# Altium schematic symbol library Library_KEI_Ruzicka.SchLib: 118 symbols (part 2 of 2)
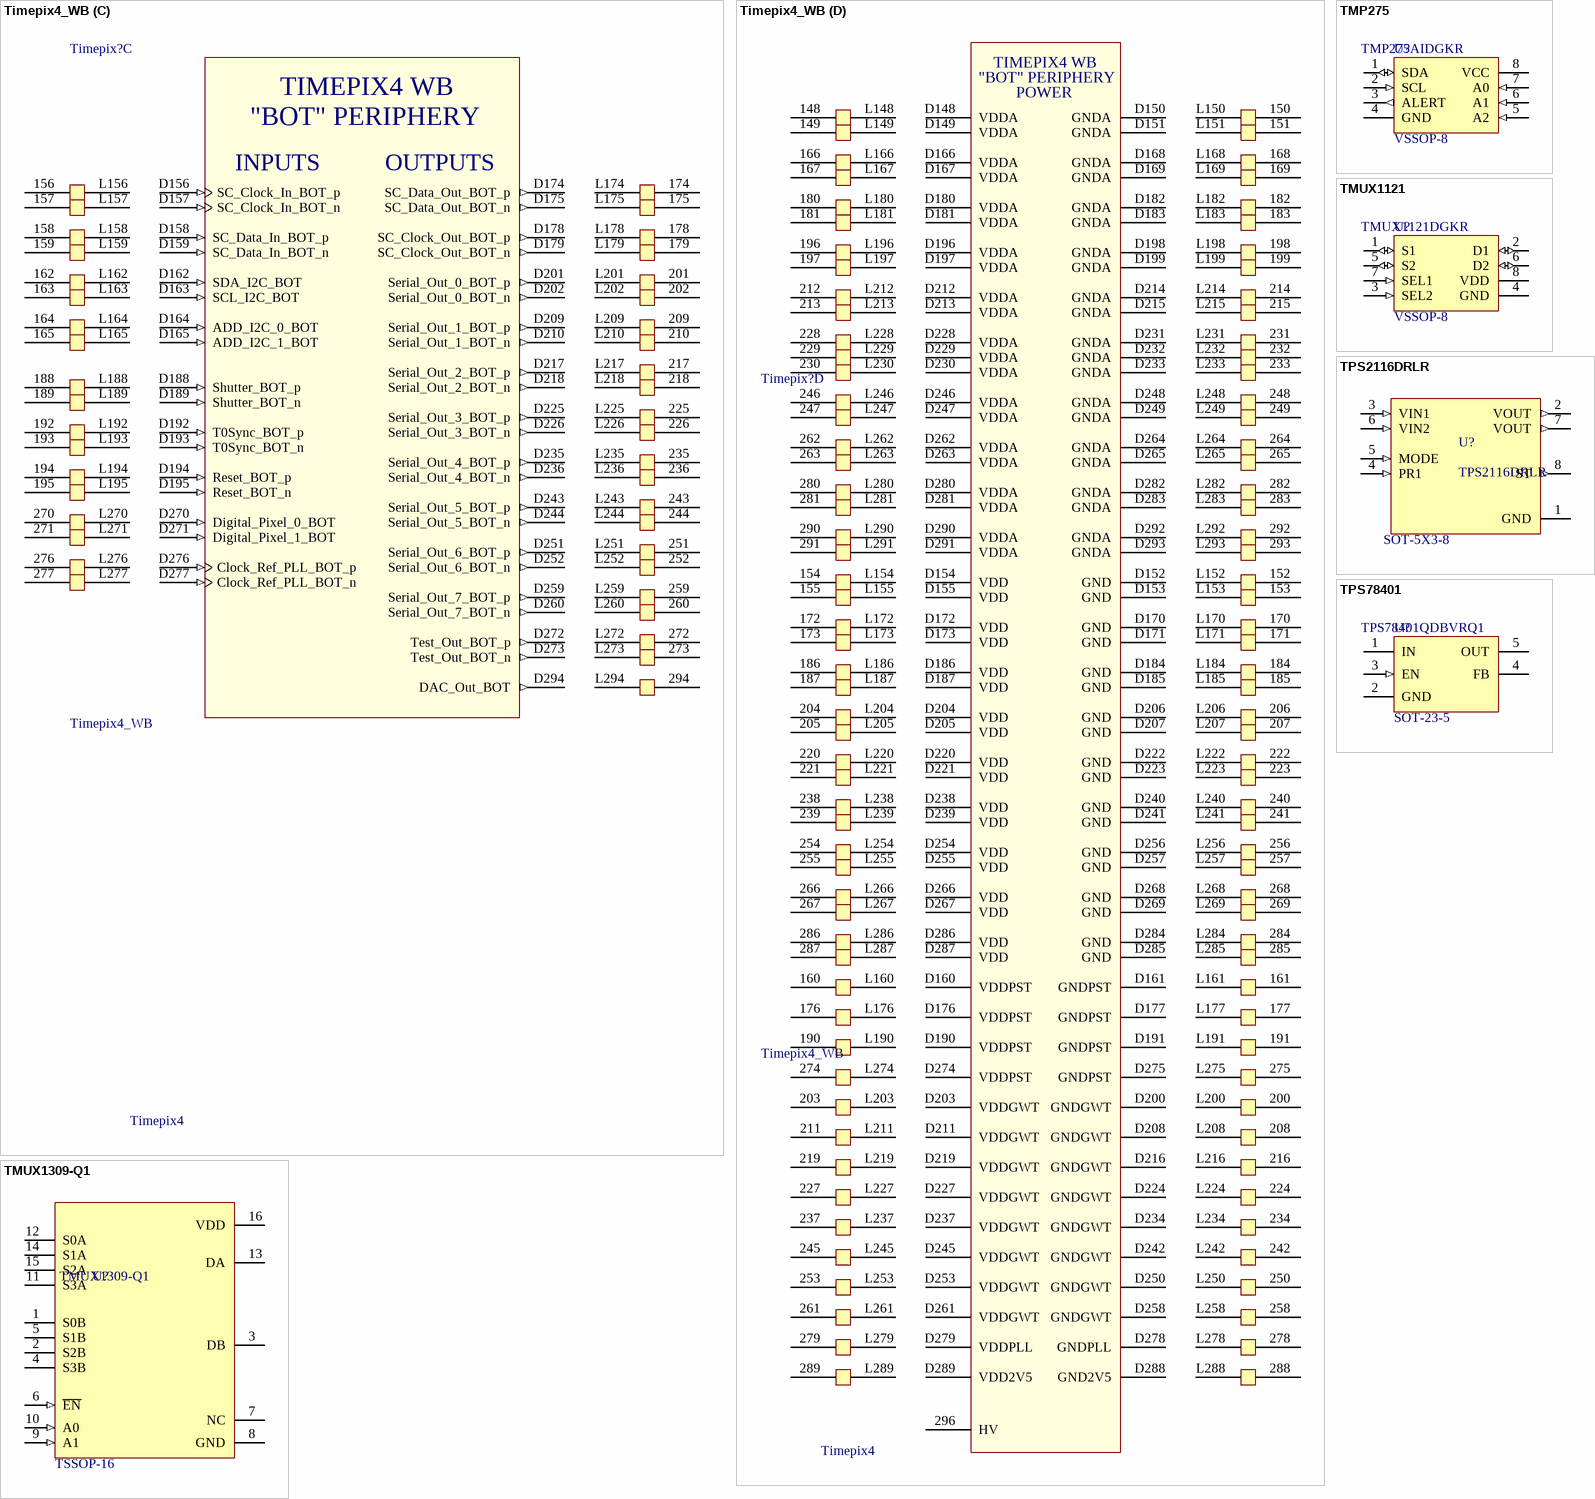
[diagram p7: symbols Timepix4_WB to TPS78401]

## Timepix4_WB
designator Timepix?  value Timepix4
Timepix4 sensor, wirebond; Part Number: 41; Manufacturer: CERN; Pins: 884; Supplier: CERN; Supplier_number: Timepix4
footprint Timepix4_WB (Pixelated chip)
footprint MOD_Timepix4_Wirebond_W1180_L980
footprint MOD_Timepix4_Wirebond_W1180_L980_cascadeBond
footprint MOD_Timepix4_Wirebond_W1180_L980_cascadeBond_sideHV
part A pins: 9, 10, 11, 12, 15, 16, 17, 18, 27, 28, 31, 32, 41, 42, 45, 46, 47, 48, 54, 55, 62, 63, 70, 71, 78, 79, 88, 89, 96, 97, 104, 105, 112, 113, 123, 124, 125, 126, 129, 130, 147, D9 SC_Clock_In_TOP_p (in), D10 SC_Clock_In_TOP_n (in), D11 SC_Data_In_TOP_p (in), D12 SC_Data_In_TOP_n (in), D15 SDA_I2C_TOP (in), D16 SCL_I2C_TOP (in), D17 ADD_I2C_0_TOP (in), D18 ADD_I2C_1_TOP (in), D27 SC_Data_Out_TOP_p (out), D28 SC_Data_Out_TOP_n (out), D31 SC_Clock_Out_TOP_p (out), D32 SC_Clock_Out_TOP_n (out), D41 Shutter_TOP_p (in), D42 Shutter_TOP_n (in), D45 T0Sync_TOP_p (in), D46 T0Sync_TOP_n (in), D47 Reset_TOP_p (in), D48 Reset_TOP_n (in), D54 Serial_Out_0_TOP_p (out), D55 Serial_Out_0_TOP_n (out), D62 Serial_Out_1_TOP_p (out), D63 Serial_Out_1_TOP_n (out), D70 Serial_Out_2_TOP_p (out), D71 Serial_Out_2_TOP_n (out), D78 Serial_Out_3_TOP_p (out), D79 Serial_Out_3_TOP_n (out), D88 Serial_Out_4_TOP_p (out), D89 Serial_Out_4_TOP_n (out), D96 Serial_Out_5_TOP_p (out), D97 Serial_Out_5_TOP_n (out), D104 Serial_Out_6_TOP_p (out), D105 Serial_Out_0_TOP_n (out), D112 Serial_Out_7_TOP_p (out), D113 Serial_Out_7_TOP_n (out), D123 Digital_Pixel_0_TOP (in), D124 Digital_Pixel_1_TOP (in), D125 Test_Out_TOP_p (out), D126 Test_Out_TOP_n (out), D129 Clock_Ref_PLL_TOP_p (in), D130 Clock_Ref_PLL_TOP_n (in), D147 DAC_Out_TOP (out), L9, L10, L11, L12, L15, L16, L17, L18, L27, L28, L31, L32, L41, L42, L45, L46, L47, L48, L54, L55, L62, L63, L70, L71, L78, L79, L88, L89, L96, L97, L104, L105, L112, L113, L123, L124, L125, L126, L129, L130, L147
part B pins: 1, 2, 3, 4, 5, 6, 7, 8, 13, 14, 19 2, 20 3, 21, 22, 23, 24, 25, 26, 29 14, 30, 33 3, 34 4, 35, 36, 37, 38, 39, 40, 43 15, 44, 49 4, 50 5, 51, 52, 53, 56, 57, 58, 59, 60, 61, 64 57, 65 5, 66 6, 67, 68, 69, 72 58, 73, 74, 75, 76, 77, 80 59, 81 6, 82 7, 83 8, 84, 85, 86, 87, 90, 91, 92, 93, 94, 95, 98, 99 6, 100 7, 101, 102, 103, 106, 107, 108, 109, 110, 111, 114, 115 7, 116 8, 117, 118, 119, 120, 121, 122, 127 16, 128, 131, 132 17, 133 8, 134 9, 135, 136, 137, 138, 139, 140, 141, 142, 143 9, 144 10, 145, 146, 295 HV, D1 VDDA (power), D2 VDDA (power), D3 GNDA (power), D4 GNDA (power), D5 GND (power), D6 GND (power), D7 VDD (power), D8 VDD (power), D13 VDDPST (power), D14 GNDPST (power), D19 VDDA (power), D20 VDDA (power), D21 GNDA (power), D22 GNDA (power), D23 GND (power), D24 GND (power), D25 VDD (power), D26 VDD (power), D29 VDDPST (power), D30 GNDPST (power), D33 VDDA (power), D34 VDDA (power), D35 GNDA (power), D36 GNDA (power), D37 GND (power), D38 GND (power), D39 VDD (power), D40 VDD (power), D43 VDDPST (power), D44 GNDPST (power), D49 VDDA (power), D50 VDDA (power), D51 GNDA (power), D52 GNDA (power), D53 GNDGWT (power), D56 VDDGWT (power), D57 VDD (power), D58 VDD (power), D59 GND (power), D60 GND (power), D61 GNDGWT (power), D64 VDDGWT (power), D65 VDDA (power), D66 VDDA (power), D67 GNDA (power), D68 GNDA (power), D69 GNDGWT (power), D72 VDDGWT (power), D73 VDD (power), D74 VDD (power), D75 GND (power), D76 GND (power), D77 GNDGWT (power), D80 VDDGWT (power), D81 VDDA (power), D82 VDDA (power), D83 VDDA (power), D84 GNDA (power), D85 GNDA (power), D86 GNDA (power), D87 GNDGWT (power), D90 VDDGWT (power), D91 VDD (power), D92 VDD (power), D93 GND (power), D94 GND (power), D95 GNDGWT (power), D98 VDDGWT (power), D99 VDDA (power), D100 VDDA (power), D101 GNDA (power), D102 GNDA (power), D103 GNDGWT (power), D106 VDDGWT (power), D107 VDD (power), D108 VDD (power), D109 GND (power), D110 GND (power), D111 GNDGWT (power), D114 VDDGWT (power), D115 VDDA (power), D116 VDDA (power), D117 GNDA (power), D118 GNDA (power), D119 VDD (power), D120 VDD (power), D121 GND (power), D122 GND (power), D127 VDDPST (power), D128 GNDPST (power), D131 GNDPLL (power), D132 VDDPLL (power), D133 VDDA (power), D134 VDDA (power), D135 GNDA (power), D136 GNDA (power), D137 GND (power), D138 GND (power), D139 VDD (power), D140 VDD (power), D141 GND2V5 (power), D142 VDD2V5 (power), D143 VDDA (power), D144 VDDA (power), D145 GNDA (power), D146 GNDA (power), L1, L2, L3, L4, L5, L6, L7, L8, L13, L14, L19, L20, L21, L22, L23, L24, L25, L26, L29, L30, L33, L34, L35, L36, L37, L38, L39, L40, L43, L44, L49, L50, L51, L52, L53, L56, L57, L58, L59, L60, L61, L64, L65, L66, L67, L68, L69, L72, L73, L74, L75, L76, L77, L80, L81, L82, L83, L84, L85, L86, L87, L90, L91, L92, L93, L94, L95, L98, L99, L100, L101, L102, L103, L106, L107, L108, L109, L110, L111, L114, L115, L116 L8, L117, L118, L119, L120, L121, L122, L127, L128, L131, L132, L133, L134, L135, L136, L137, L138, L139, L140, L141, L142, L143, L144, L145, L146
part C pins: 156, 157, 158, 159, 162, 163, 164, 165, 174, 175, 178, 179, 188, 189, 192, 193, 194, 195, 201, 202, 209, 210, 217, 218, 225, 226, 235, 236, 243, 244, 251, 252, 259, 260, 270, 271, 272, 273, 276, 277, 294, D156 SC_Clock_In_BOT_p (in), D157 SC_Clock_In_BOT_n (in), D158 SC_Data_In_BOT_p (in), D159 SC_Data_In_BOT_n (in), D162 SDA_I2C_BOT (in), D163 SCL_I2C_BOT (in), D164 ADD_I2C_0_BOT (in), D165 ADD_I2C_1_BOT (in), D174 SC_Data_Out_BOT_p (out), D175 SC_Data_Out_BOT_n (out), D178 SC_Clock_Out_BOT_p (out), D179 SC_Clock_Out_BOT_n (out), D188 Shutter_BOT_p (in), D189 Shutter_BOT_n (in), D192 T0Sync_BOT_p (in), D193 T0Sync_BOT_n (in), D194 Reset_BOT_p (in), D195 Reset_BOT_n (in), D201 Serial_Out_0_BOT_p (out), D202 Serial_Out_0_BOT_n (out), D209 Serial_Out_1_BOT_p (out), D210 Serial_Out_1_BOT_n (out), D217 Serial_Out_2_BOT_p (out), D218 Serial_Out_2_BOT_n (out), D225 Serial_Out_3_BOT_p (out), D226 Serial_Out_3_BOT_n (out), D235 Serial_Out_4_BOT_p (out), D236 Serial_Out_4_BOT_n (out), D243 Serial_Out_5_BOT_p (out), D244 Serial_Out_5_BOT_n (out), D251 Serial_Out_6_BOT_p (out), D252 Serial_Out_6_BOT_n (out), D259 Serial_Out_7_BOT_p (out), D260 Serial_Out_7_BOT_n (out), D270 Digital_Pixel_0_BOT (in), D271 Digital_Pixel_1_BOT (in), D272 Test_Out_BOT_p (out), D273 Test_Out_BOT_n (out), D276 Clock_Ref_PLL_BOT_p (in), D277 Clock_Ref_PLL_BOT_n (in), D294 DAC_Out_BOT (out), L156, L157, L158, L159, L162, L163, L164, L165, L174, L175, L178, L179, L188, L189, L192, L193, L194, L195, L201, L202, L209, L210, L217, L218, L225, L226, L235, L236, L243, L244, L251, L252, L259, L260, L270, L271, L272, L273, L276, L277, L294
part D pins: 148, 149, 150, 151, 152, 153, 154, 155, 160, 161, 166 149, 167 150, 168, 169, 170, 171, 172, 173, 176 161, 177, 180 150, 181 151, 182, 183, 184, 185, 186, 187, 190 162, 191, 196 151, 197 152, 198, 199, 200, 203, 204, 205, 206, 207, 208, 211 204, 212 152, 213 153, 214, 215, 216, 219 205, 220, 221, 222, 223, 224, 227 206, 228 153, 229 154, 230 155, 231, 232, 233, 234, 237, 238, 239, 240, 241, 242, 245, 246 153, 247 154, 248, 249, 250, 253, 254, 255, 256, 257, 258, 261, 262 154, 263 155, 264, 265, 266, 267, 268, 269, 274 163, 275, 278, 279 164, 280 155, 281 156, 282, 283, 284, 285, 286, 287, 288, 289, 290 156, 291 157, 292, 293, 296 HV, D148 VDDA (power), D149 VDDA (power), D150 GNDA (power), D151 GNDA (power), D152 GND (power), D153 GND (power), D154 VDD (power), D155 VDD (power), D160 VDDPST (power), D161 GNDPST (power), D166 VDDA (power), D167 VDDA (power), D168 GNDA (power), D169 GNDA (power), D170 GND (power), D171 GND (power), D172 VDD (power), D173 VDD (power), D176 VDDPST (power), D177 GNDPST (power), D180 VDDA (power), D181 VDDA (power), D182 GNDA (power), D183 GNDA (power), D184 GND (power), D185 GND (power), D186 VDD (power), D187 VDD (power), D190 VDDPST (power), D191 GNDPST (power), D196 VDDA (power), D197 VDDA (power), D198 GNDA (power), D199 GNDA (power), D200 GNDGWT (power), D203 VDDGWT (power), D204 VDD (power), D205 VDD (power), D206 GND (power), D207 GND (power), D208 GNDGWT (power), D211 VDDGWT (power), D212 VDDA (power), D213 VDDA (power), D214 GNDA (power), D215 GNDA (power), D216 GNDGWT (power), D219 VDDGWT (power), D220 VDD (power), D221 VDD (power), D222 GND (power), D223 GND (power), D224 GNDGWT (power), D227 VDDGWT (power), D228 VDDA (power), D229 VDDA (power), D230 VDDA (power), D231 GNDA (power), D232 GNDA (power), D233 GNDA (power), D234 GNDGWT (power), D237 VDDGWT (power), D238 VDD (power), D239 VDD (power), D240 GND (power), D241 GND (power), D242 GNDGWT (power), D245 VDDGWT (power), D246 VDDA (power), D247 VDDA (power), D248 GNDA (power), D249 GNDA (power), D250 GNDGWT (power), D253 VDDGWT (power), D254 VDD (power), D255 VDD (power), D256 GND (power), D257 GND (power), D258 GNDGWT (power), D261 VDDGWT (power), D262 VDDA (power), D263 VDDA (power), D264 GNDA (power), D265 GNDA (power), D266 VDD (power), D267 VDD (power), D268 GND (power), D269 GND (power), D274 VDDPST (power), D275 GNDPST (power), D278 GNDPLL (power), D279 VDDPLL (power), D280 VDDA (power), D281 VDDA (power), D282 GNDA (power), D283 GNDA (power), D284 GND (power), D285 GND (power), D286 VDD (power), D287 VDD (power), D288 GND2V5 (power), D289 VDD2V5 (power), D290 VDDA (power), D291 VDDA (power), D292 GNDA (power), D293 GNDA (power), L148, L149, L150, L151, L152, L153, L154, L155, L160, L161, L166, L167, L168, L169, L170, L171, L172, L173, L176, L177, L180, L181, L182, L183, L184, L185, L186, L187, L190, L191, L196, L197, L198, L199, L200, L203, L204, L205, L206, L207, L208, L211, L212, L213, L214, L215, L216, L219, L220, L221, L222, L223, L224, L227, L228, L229, L230, L231, L232, L233, L234, L237, L238, L239, L240, L241, L242, L245, L246, L247, L248, L249, L250, L253, L254, L255, L256, L257, L258, L261, L262, L263 L155, L264, L265, L266, L267, L268, L269, L274, L275, L278, L279, L280, L281, L282, L283, L284, L285, L286, L287, L288, L289, L290, L291, L292, L293
part A text: TIMEPIX4 WB; "TOP" PERIPHERY; INPUTS; OUTPUTS
part B text: TIMEPIX4 WB; "TOP" PERIPHERY; POWER
part C text: TIMEPIX4 WB; "BOT" PERIPHERY; INPUTS; OUTPUTS
part D text: TIMEPIX4 WB; "BOT" PERIPHERY; POWER

## TMP275
designator U?, comment TMP275AIDGKR  Package: VSSOP-8
I2C ±0.5°C Temperature Sensor; Manufacturer: Texas Instruments; Link: https://cz.mouser.com/ProductDetail/Texas-Instruments/TMP275AIDGKR?qs=RnzODY3cU8v9LWMH5YW1eQ%3D%3D&utm_id=20109199427&gad_source=1&gclid=CjwKCAjwhIS0BhBqEiwADAUhc0_SASKqB-PLyWTqpads6ibLibyqbTwsBhDKT4CGQp2hdobwB620EhoCWvAQAvD_BwE; Distributor: Mouser; Part Number: TMP275AIDGKR
footprint VSSOP-8 (Plastic Small Outline 5,05mm x 3,10mm)
pins: 1 SDA (io), 2 SCL (in), 3 ALERT (out), 4 GND, 5 A2 (in), 6 A1 (in), 7 A0 (in), 8 VCC

## TMUX1121
designator U?, comment TMUX1121DGKR  Package: VSSOP-8
Analogue Switch, 2x SPST; Manufacturer: Texas Instruments; Link: https://cz.mouser.com/ProductDetail/Texas-Instruments/TMUX1121DGKR?qs=XeJtXLiO41RR8f%2F8dmY7lg%3D%3D; Distributor: Mouser; Part Number: TMUX1121DGKR
footprint VSSOP-8 (Plastic Small Outline 5,05mm x 3,10mm)
pins: 1 S1 (io), 2 D1 (io), 3 SEL2 (in), 4 GND (power), 5 S2 (io), 6 D2 (io), 7 SEL1 (in), 8 VDD

## TMUX1309-Q1
designator U?  Package: TSSOP-16
4:1 Analog Multiplexer; Manufacturer: Texas Instruments; Part Number: TMUX1309QPWRQ1; Link: https://cz.mouser.com/ProductDetail/Texas-Instruments/TMUX1309QPWRQ1?qs=hd1VzrDQEGh8otU5MeVtpg%3D%3D; Distributor: Mouser
footprint TSSOP-16
pins: 1 S0B, 2 S2B, 3 DB, 4 S3B, 5 S1B, 6 ~{EN} (in), 7 NC, 8 GND (power), 9 A1 (in), 10 A0 (in), 11 S3A, 12 S0A, 13 DA, 14 S1A, 15 S2A, 16 VDD (power)

## TPS2116DRLR
designator U?  Package: SOT-5X3-8
Priority power multiplexer, 1.6-V to 5.5-V, 2.5-A; Manufacturer: Texas Instruments; Link: https://www.snapeda.com/parts/TPS2116DRLR/Texas+Instruments/view-part/?ref=snap; Distributor: Mouser; Part Number: TPS2116DRLR
footprint SOT-5X3-8 (SOTFL50P160X60-8N)
pins: 1 GND (power), 2 VOUT (out), 3 VIN1 (in), 4 PR1 (in), 5 MODE (in), 6 VIN2 (in), 7 VOUT (out), 8 ST (out)

## TPS78401
designator U?, comment TPS78401QDBVRQ1  Package: SOT-23-5
LDO 300mA, ADJ, Output 1.2 V to 5.5 V; Manufacturer: Texas Instruments; Link: https://cz.mouser.com/ProductDetail/Texas-Instruments/TPS78401QDBVRQ1?qs=OlC7AqGiEDm4l53KUVzPdg%3D%3D; Distributor: Mouser; Part Number: TPS78401QDBVRQ1
footprint SOT-23-5 (SOT23, 5-Leads, Body 2.9x1.6mm, Pitch 0.95mm, Lead Span 2.7mm, IPC Low Density)
pins: 1 IN (power), 2 GND (power), 3 EN (in), 4 FB, 5 OUT (power)

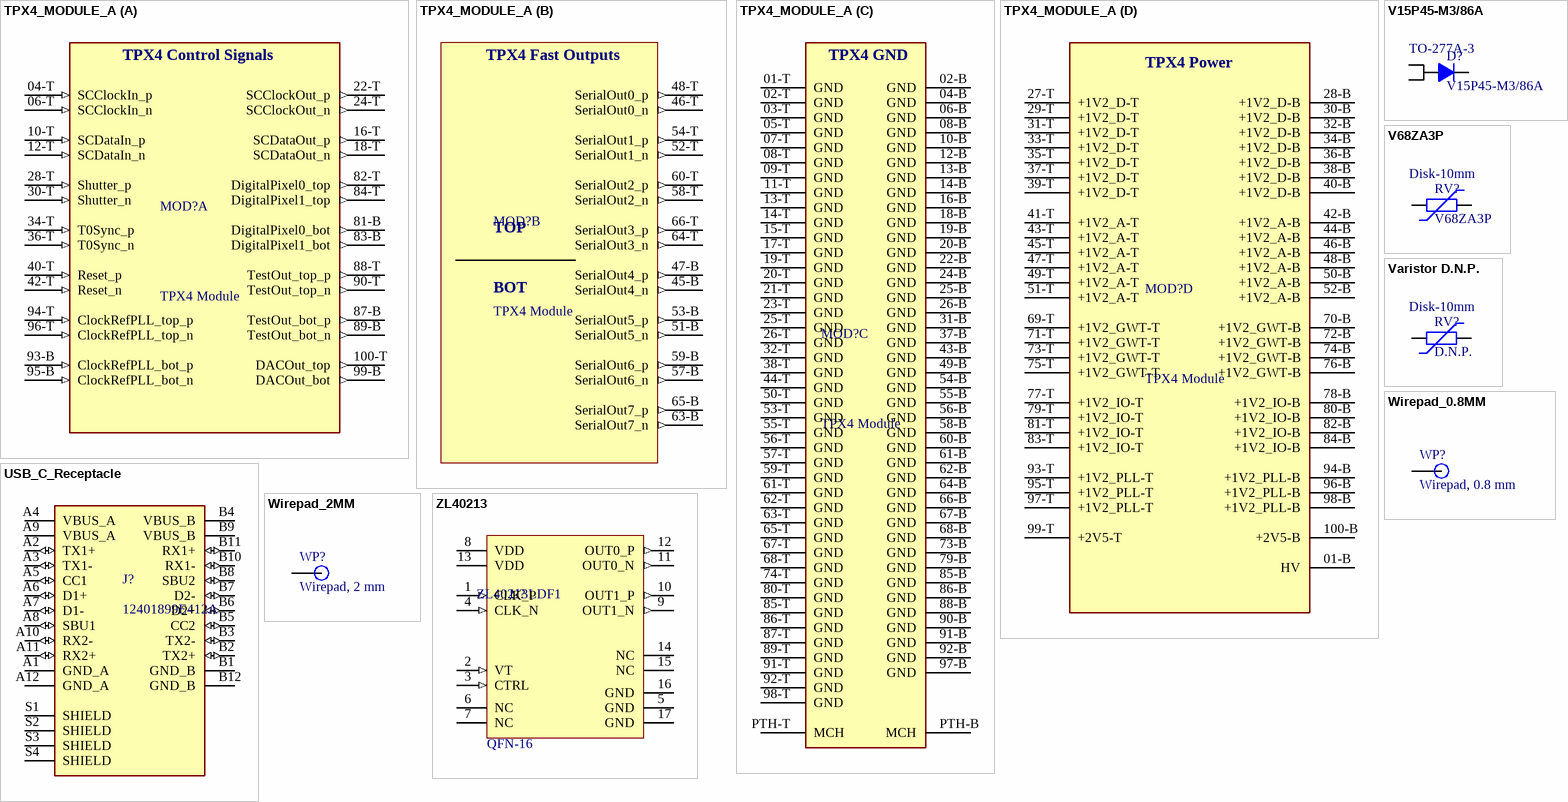
[diagram p6: symbols TPX4_MODULE_A to ZL40213]

## TPX4_MODULE_A
designator MOD?, comment TPX4 Module
Timepix 4 Module; Manufacturer: UWB; Link: -; Distributor: UWB; Part Number: -; Package: -
footprint TPX4_Module_A (TPX4 Module PCB receptable)
part A pins: 04-T SCClockIn_p (in), 06-T SCClockIn_n (in), 10-T SCDataIn_p (in), 12-T SCDataIn_n (in), 16-T SCDataOut_p (out), 18-T SCDataOut_n (out), 22-T SCClockOut_p (out), 24-T SCClockOut_n (out), 28-T Shutter_p (in), 30-T Shutter_n (in), 34-T T0Sync_p (in), 36-T T0Sync_n (in), 40-T Reset_p (in), 42-T Reset_n (in), 81-B DigitalPixel0_bot (out), 82-T DigitalPixel0_top (out), 83-B DigitalPixel1_bot (out), 84-T DigitalPixel1_top (out), 87-B TestOut_bot_p (out), 88-T TestOut_top_p (out), 89-B TestOut_bot_n (out), 90-T TestOut_top_n (out), 93-B ClockRefPLL_bot_p (in), 94-T ClockRefPLL_top_p (in), 95-B ClockRefPLL_bot_n (in), 96-T ClockRefPLL_top_n (in), 99-B DACOut_bot (out), 100-T DACOut_top (out)
part B pins: 45-B SerialOut4_n (out), 46-T SerialOut0_n (out), 47-B SerialOut4_p (out), 48-T SerialOut0_p (out), 51-B SerialOut5_n (out), 52-T SerialOut1_n (out), 53-B SerialOut5_p (out), 54-T SerialOut1_p (out), 57-B SerialOut6_n (out), 58-T SerialOut2_n (out), 59-B SerialOut6_p (out), 60-T SerialOut2_p (out), 63-B SerialOut7_n (out), 64-T SerialOut3_n (out), 65-B SerialOut7_p (out), 66-T SerialOut3_p (out)
part C pins: 01-T GND (power), 02-B GND (power), 02-T GND (power), 03-T GND (power), 04-B GND (power), 05-T GND (power), 06-B GND (power), 07-T GND (power), 08-B GND (power), 08-T GND (power), 09-T GND (power), 10-B GND (power), 11-T GND (power), 12-B GND (power), 13-B GND (power), 13-T GND (power), 14-B GND (power), 14-T GND (power), 15-T GND (power), 16-B GND (power), 17-T GND (power), 18-B GND (power), 19-B GND (power), 19-T GND (power), 20-B GND (power), 20-T GND (power), 21-T GND (power), 22-B GND (power), 23-T GND (power), 24-B GND (power), 25-B GND (power), 25-T GND (power), 26-B GND (power), 26-T GND (power), 31-B GND (power), 32-T GND (power), 37-B GND (power), 38-T GND (power), 43-B GND (power), 44-T GND (power), 49-B GND (power), 50-T GND (power), 53-T GND (power), 54-B GND (power), 55-B GND (power), 55-T GND (power), 56-B GND (power), 56-T GND (power), 57-T GND (power), 58-B GND (power), 59-T GND (power), 60-B GND (power), 61-B GND (power), 61-T GND (power), 62-B GND (power), 62-T GND (power), 63-T GND (power), 64-B GND (power), 65-T GND (power), 66-B GND (power), 67-B GND (power), 67-T GND (power), 68-B GND (power), 68-T GND (power), 73-B GND (power), 74-T GND (power), 79-B GND (power), 80-T GND (power), 85-B GND (power), 85-T GND (power), 86-B GND (power), 86-T GND (power), 87-T GND (power), 88-B GND (power), 89-T GND (power), 90-B GND (power), 91-B GND (power), 91-T GND (power), 92-B GND (power), 92-T GND (power), 97-B GND (power), 98-T GND (power), PTH-B MCH (power), PTH-T MCH (power)
part D pins: 01-B HV (power), 27-T +1V2_D-T (power), 28-B +1V2_D-B (power), 29-T +1V2_D-T (power), 30-B +1V2_D-B (power), 31-T +1V2_D-T (power), 32-B +1V2_D-B (power), 33-T +1V2_D-T (power), 34-B +1V2_D-B (power), 35-T +1V2_D-T (power), 36-B +1V2_D-B (power), 37-T +1V2_D-T (power), 38-B +1V2_D-B (power), 39-T +1V2_D-T (power), 40-B +1V2_D-B (power), 41-T +1V2_A-T (power), 42-B +1V2_A-B (power), 43-T +1V2_A-T (power), 44-B +1V2_A-B (power), 45-T +1V2_A-T (power), 46-B +1V2_A-B (power), 47-T +1V2_A-T (power), 48-B +1V2_A-B (power), 49-T +1V2_A-T (power), 50-B +1V2_A-B (power), 51-T +1V2_A-T (power), 52-B +1V2_A-B (power), 69-T +1V2_GWT-T (power), 70-B +1V2_GWT-B (power), 71-T +1V2_GWT-T (power), 72-B +1V2_GWT-B (power), 73-T +1V2_GWT-T (power), 74-B +1V2_GWT-B (power), 75-T +1V2_GWT-T (power), 76-B +1V2_GWT-B (power), 77-T +1V2_IO-T (power), 78-B +1V2_IO-B (power), 79-T +1V2_IO-T (power), 80-B +1V2_IO-B (power), 81-T +1V2_IO-T (power), 82-B +1V2_IO-B (power), 83-T +1V2_IO-T (power), 84-B +1V2_IO-B (power), 93-T +1V2_PLL-T (power), 94-B +1V2_PLL-B (power), 95-T +1V2_PLL-T (power), 96-B +1V2_PLL-B (power), 97-T +1V2_PLL-T (power), 98-B +1V2_PLL-B (power), 99-T +2V5-T (power), 100-B +2V5-B (power)
part A text: TPX4 Control Signals
part B text: TPX4 Fast Outputs; TOP; BOT
part C text: TPX4 GND
part D text: TPX4 Power

## USB_C_Receptacle
designator J?, comment 12401899E412A
USB Type C, USB3.2 GEN2, Top mount, CH 1.75mm, Dual Row SMT, IPX2; Manufacturer: Amphenol; Link: https://cz.mouser.com/ProductDetail/Amphenol-Commercial-Products/12401899E412A?qs=0lSvoLzn4L%2FxruERFi%2FtTg%3D%3D; Distributor: Mouser; Part Number: 12401899E412A; Package: USB-C
footprint USB_C_12401899E412A (AMPHENOL_12401899E412A)
pins: A1 GND_A (power), A2 TX1+ (io), A3 TX1- (io), A4 VBUS_A (power), A5 CC1 (io), A6 D1+ (io), A7 D1- (io), A8 SBU1 (io), A9 VBUS_A (power), A10 RX2- (io), A11 RX2+ (io), A12 GND_A (power), B1 GND_B (power), B2 TX2+ (io), B3 TX2- (io), B4 VBUS_B (power), B5 CC2 (io), B6 D2+ (io), B7 D2- (io), B8 SBU2 (io), B9 VBUS_B (power), B10 RX1- (io), B11 RX1+ (io), B12 GND_B (power), S1 SHIELD, S2 SHIELD, S3 SHIELD, S4 SHIELD

## V15P45-M3/86A
designator D?  Package: TO-277A-3
Schottky 15A, 45V, 310mV; Manufacturer: Vishay; Link: https://cz.mouser.com/ProductDetail/Vishay-General-Semiconductor/V15P45-M3-86A?qs=JVB2vxgwrwygyVdxZB3c3A%3D%3D; Distributor: Mouser; Part Number: V15P45-M3/86A
footprint TO-277A-3
pins: 1 A, 2 A, K

## V68ZA3P
designator RV?  Package: Disk-10mm
Varistor 40 VAC 6.5J 135V-CL 500A-PK; Manufacturer: Littelfuse; Link: https://cz.mouser.com/ProductDetail/Littelfuse/V68ZA3P?qs=%2F1QgSPWIR0HQeTs0jUchZQ%3D%3D; Distributor: Mouser; Part Number: V68ZA3P
footprint Disk-10mm (Varistor)
pins: 1, 2

## Varistor D.N.P.
designator RV?, comment D.N.P.  Package: Disk-10mm
Varistor Disk-10mm; Link: -; Distributor: -; Manufacturer: -; Part Number: -
footprint Disk-10mm (Varistor)
pins: 1, 2

## Wirepad_0.8MM
designator WP?, comment Wirepad, 0.8 mm
footprint Wirepad_0.8MM (Footprint not found)
pins: 1

## Wirepad_2MM
designator WP?, comment Wirepad, 2 mm
footprint Wirepad_2MM (Footprint not found)
pins: 1

## ZL40213
designator U?, comment ZL40213LDF1  Package: QFN-16
Precision 1:2 LVDS Fanout Buffer with On-Chip Input Termination; Manufacturer: Microchip Technology; Link: https://cz.mouser.com/ProductDetail/Microchip-Technology/ZL40213LDF1?qs=pU29NIZ4ZwCM%2FjSBjC8nHg%3D%3D; Distributor: Mouser; Part Number: ZL40213LDF1
footprint QFN16_3MM_X_3MM (QFN, 16-Leads, Body 3x3mm, Pitch 0.5mm, Thermal Pad 2x2mm, IPC Low Density)
pins: 1 CLK_P (in), 2 VT (in), 3 CTRL (in), 4 CLK_N (in), 5 GND (power), 6 NC, 7 NC, 8 VDD (power), 9 OUT1_N (out), 10 OUT1_P (out), 11 OUT0_N (out), 12 OUT0_P (out), 13 VDD (power), 14 NC, 15 NC, 16 GND (power), 17 GND (power)